# Altium integrated library Renesas Logic.IntLib: 1013 symbols (part 13 of 27)
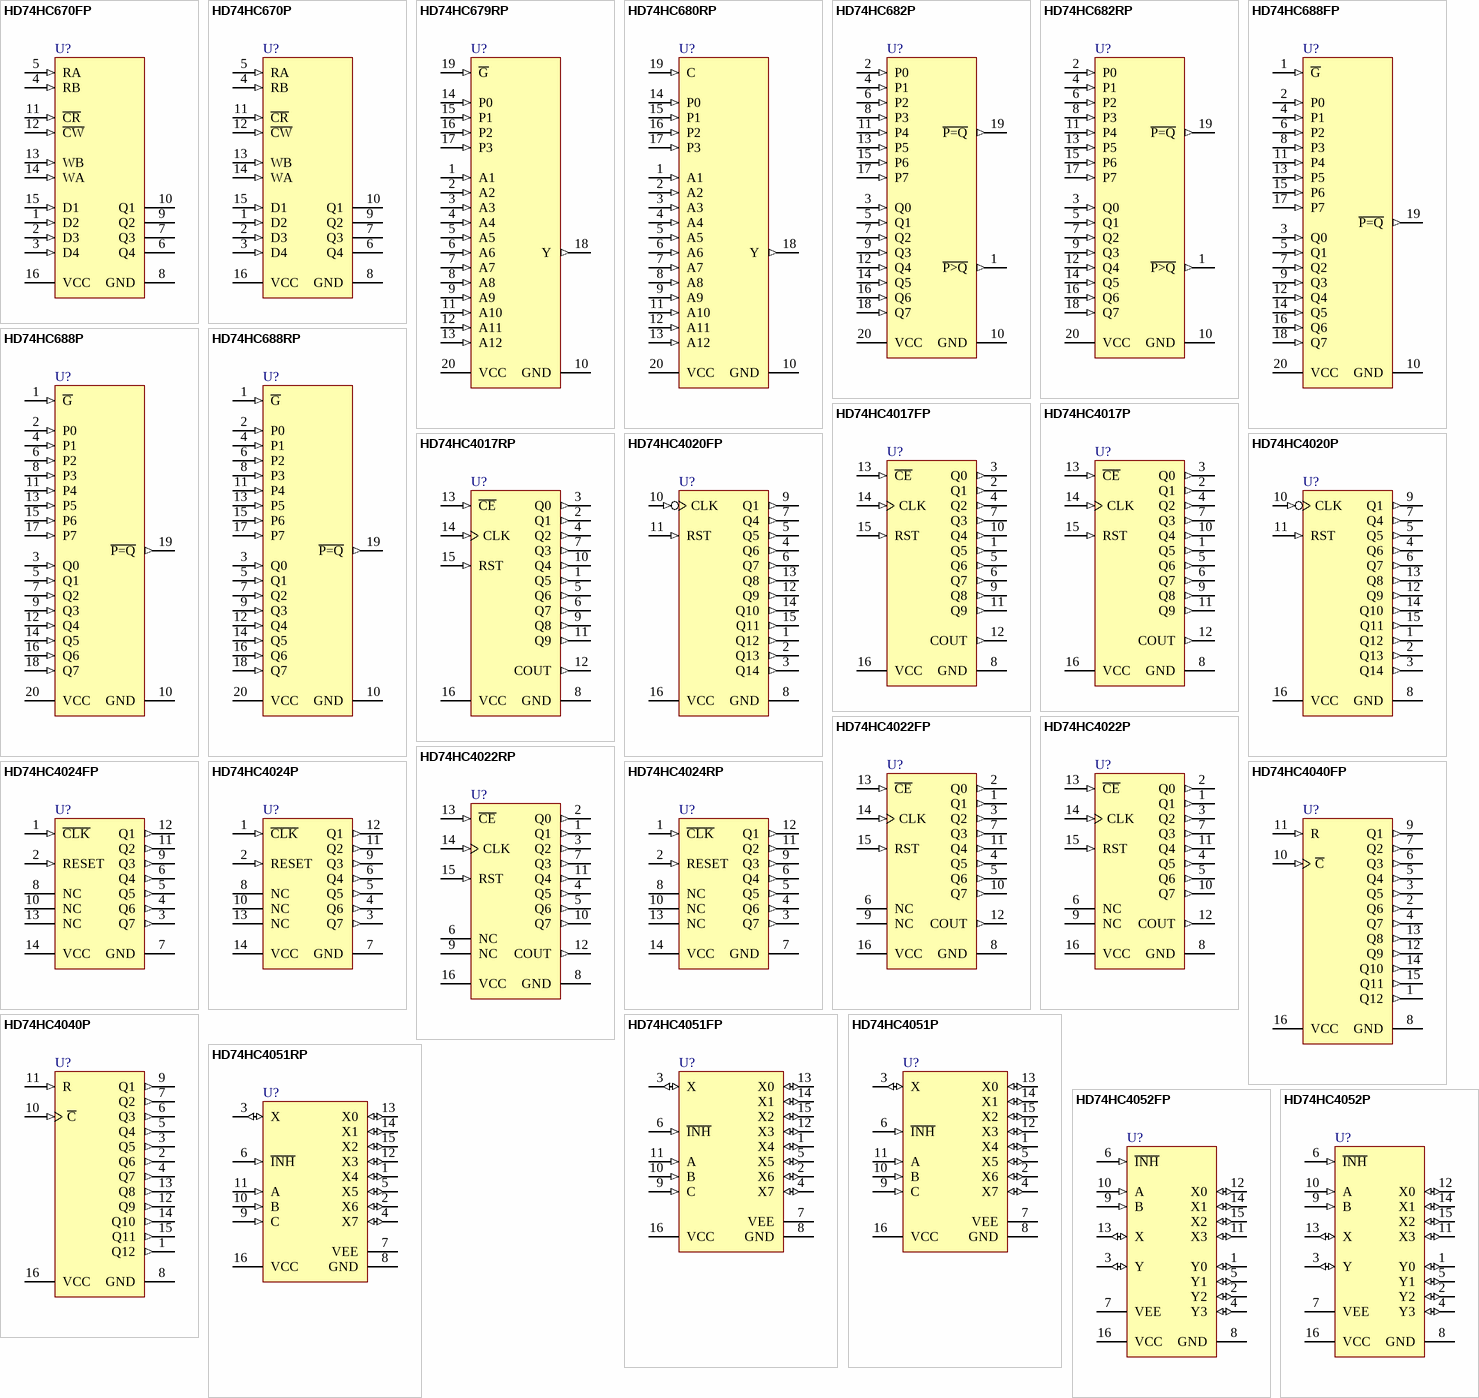
[diagram p65: symbols HD74HC670FP to HD74HC4052P]

## HD74HC679RP
designator U?
12-bit Address Comparator; Published: 10-Feb-2010; DatasheetVersion: Rev.2.00, Mar-2006; PackageVersion: Sep-2005; PackageReference: PRSP0020DC-A; Publisher: Altium Limited; PackageDescription: 20-Pin Plastic Small Outline Integrated Circuit, 12.8 x 7.5 mm Body, 1.27 mm Pitch; Code_JEITA: P-SOP20-7.5x12.8-1.27; Code_IPC: SOIC127P1030-20; ComponentLink1Description: Manufacturer Link; ComponentLink1URL: http://sg.renesas.com/fmwk.jsp?cnt=hd74hc_root.jsp&fp=/products/standard_ic/general_purpose_logic/5v_standard_logic/hd74hc/; ComponentLink2Description: Datasheet; ComponentLink2URL: http://documentation.renesas.com/eng/products/logic/rej03d0640_hd74hc679ds.pdf; ComponentLink3Description: Packaging Specification; ComponentLink3URL: http://sg.renesas.com/media/products/common_info/package/pdf/ic/code/prsp0020dc_a.pdf
footprint PRSP0020DC-A_N (SOIC, 20-Leads, Body 12.8x7.5mm, Pitch 1.27mm, IPC Medium Density)
footprint PRSP0020DC-A_L (SOIC, 20-Leads, Body 12.8x7.5mm, Pitch 1.27mm, IPC High Density)
footprint PRSP0020DC-A_M (SOIC, 20-Leads, Body 12.8x7.5mm, Pitch 1.27mm, IPC Low Density)
pins: 1 A1 (in), 2 A2 (in), 3 A3 (in), 4 A4 (in), 5 A5 (in), 6 A6 (in), 7 A7 (in), 8 A8 (in), 9 A9 (in), 10 GND (power), 11 A10 (in), 12 A11 (in), 13 A12 (in), 14 P0 (in), 15 P1 (in), 16 P2 (in), 17 P3 (in), 18 Y (out), 19 ~{G} (in), 20 VCC (power)

## HD74HC680RP
designator U?
12-bit Address Comparator; Published: 10-Feb-2010; DatasheetVersion: Rev.2.00, Mar-2006; PackageVersion: Sep-2005; PackageReference: PRSP0020DC-A; Publisher: Altium Limited; PackageDescription: 20-Pin Plastic Small Outline Integrated Circuit, 12.8 x 7.5 mm Body, 1.27 mm Pitch; Code_JEITA: P-SOP20-7.5x12.8-1.27; Code_IPC: SOIC127P1030-20; ComponentLink1Description: Manufacturer Link; ComponentLink1URL: http://sg.renesas.com/fmwk.jsp?cnt=hd74hc_root.jsp&fp=/products/standard_ic/general_purpose_logic/5v_standard_logic/hd74hc/; ComponentLink2Description: Datasheet; ComponentLink2URL: http://documentation.renesas.com/eng/products/logic/rej03d0641_hd74hc680ds.pdf; ComponentLink3Description: Packaging Specification; ComponentLink3URL: http://sg.renesas.com/media/products/common_info/package/pdf/ic/code/prsp0020dc_a.pdf
footprint PRSP0020DC-A_N (SOIC, 20-Leads, Body 12.8x7.5mm, Pitch 1.27mm, IPC Medium Density)
footprint PRSP0020DC-A_L (SOIC, 20-Leads, Body 12.8x7.5mm, Pitch 1.27mm, IPC High Density)
footprint PRSP0020DC-A_M (SOIC, 20-Leads, Body 12.8x7.5mm, Pitch 1.27mm, IPC Low Density)
pins: 1 A1 (in), 2 A2 (in), 3 A3 (in), 4 A4 (in), 5 A5 (in), 6 A6 (in), 7 A7 (in), 8 A8 (in), 9 A9 (in), 10 GND (power), 11 A10 (in), 12 A11 (in), 13 A12 (in), 14 P0 (in), 15 P1 (in), 16 P2 (in), 17 P3 (in), 18 Y (out), 19 C (in), 20 VCC (power)

## HD74HC682P
designator U?
8-bit Magnitude Comparator; Published: 10-Feb-2010; DatasheetVersion: Rev.2.00, Mar-2006; PackageVersion: Sep-2005; PackageReference: PRDP0020AC-B; Publisher: Altium Limited; PackageDescription: 20-Pin Plastic DIP, 24.5 x 6.3 mm Body, 7.62 mm Row Spacing, 2.54 mm Pitch; Code_JEITA: P-DIP20-6.3x24.5-2.54; ComponentLink1Description: Manufacturer Link; ComponentLink1URL: http://sg.renesas.com/fmwk.jsp?cnt=hd74hc_root.jsp&fp=/products/standard_ic/general_purpose_logic/5v_standard_logic/hd74hc/; ComponentLink2Description: Datasheet; ComponentLink2URL: http://documentation.renesas.com/eng/products/logic/rej03d0642_hd74hc682_684ds.pdf; ComponentLink3Description: Packaging Specification; ComponentLink3URL: http://sg.renesas.com/media/products/common_info/package/pdf/ic/code/prdp0020ac_b.pdf
footprint PRDP0020AC-B (DIP, 20-Leads, Row Spacing 7.62mm, Pitch 2.54mm, Body 24.5x6.3mm)
pins: 1 ~{P>Q} (out), 2 P0 (in), 3 Q0 (in), 4 P1 (in), 5 Q1 (in), 6 P2 (in), 7 Q2 (in), 8 P3 (in), 9 Q3 (in), 10 GND (power), 11 P4 (in), 12 Q4 (in), 13 P5 (in), 14 Q5 (in), 15 P6 (in), 16 Q6 (in), 17 P7 (in), 18 Q7 (in), 19 ~{P=Q} (out), 20 VCC (power)

## HD74HC682RP
designator U?
8-bit Magnitude Comparator; Published: 10-Feb-2010; DatasheetVersion: Rev.2.00, Mar-2006; PackageVersion: Sep-2005; PackageReference: PRSP0020DC-A; Publisher: Altium Limited; PackageDescription: 20-Pin Plastic Small Outline Integrated Circuit, 12.8 x 7.5 mm Body, 1.27 mm Pitch; Code_JEITA: P-SOP20-7.5x12.8-1.27; Code_IPC: SOIC127P1030-20; ComponentLink1Description: Manufacturer Link; ComponentLink1URL: http://sg.renesas.com/fmwk.jsp?cnt=hd74hc_root.jsp&fp=/products/standard_ic/general_purpose_logic/5v_standard_logic/hd74hc/; ComponentLink2Description: Datasheet; ComponentLink2URL: http://documentation.renesas.com/eng/products/logic/rej03d0642_hd74hc682_684ds.pdf; ComponentLink3Description: Packaging Specification; ComponentLink3URL: http://sg.renesas.com/media/products/common_info/package/pdf/ic/code/prsp0020dc_a.pdf
footprint PRSP0020DC-A_N (SOIC, 20-Leads, Body 12.8x7.5mm, Pitch 1.27mm, IPC Medium Density)
footprint PRSP0020DC-A_L (SOIC, 20-Leads, Body 12.8x7.5mm, Pitch 1.27mm, IPC High Density)
footprint PRSP0020DC-A_M (SOIC, 20-Leads, Body 12.8x7.5mm, Pitch 1.27mm, IPC Low Density)
pins: 1 ~{P>Q} (out), 2 P0 (in), 3 Q0 (in), 4 P1 (in), 5 Q1 (in), 6 P2 (in), 7 Q2 (in), 8 P3 (in), 9 Q3 (in), 10 GND (power), 11 P4 (in), 12 Q4 (in), 13 P5 (in), 14 Q5 (in), 15 P6 (in), 16 Q6 (in), 17 P7 (in), 18 Q7 (in), 19 ~{P=Q} (out), 20 VCC (power)

## HD74HC688FP
designator U?
8-bit Magnitude Comparator; Published: 10-Feb-2010; DatasheetVersion: Rev.2.00, Mar-2006; PackageVersion: Sep-2005; PackageReference: PRSP0020DD-B; Publisher: Altium Limited; PackageDescription: 20-Pin Plastic Small Outline Package, 12.6 x 5.5 x 1.8 mm Body, 1.27 mm Pitch; Code_JEITA: P-SOP20-5.5x12.6-1.27; ComponentLink1Description: Manufacturer Link; ComponentLink1URL: http://sg.renesas.com/fmwk.jsp?cnt=hd74hc_root.jsp&fp=/products/standard_ic/general_purpose_logic/5v_standard_logic/hd74hc/; ComponentLink2Description: Datasheet; ComponentLink2URL: http://documentation.renesas.com/eng/products/logic/rej03d0643_hd74hc688ds.pdf; ComponentLink3Description: Packaging Specification; ComponentLink3URL: http://sg.renesas.com/media/products/common_info/package/pdf/ic/code/prsp0020dd_b.pdf
footprint PRSP0020DD-B_N (SOP, 20-Leads, Body 12.6x5.3mm, Pitch 1.27mm, IPC Medium Density)
footprint PRSP0020DD-B_L (SOP, 20-Leads, Body 12.6x5.3mm, Pitch 1.27mm, IPC High Density)
footprint PRSP0020DD-B_M (SOP, 20-Leads, Body 12.6x5.3mm, Pitch 1.27mm, IPC Low Density)
pins: 1 ~{G} (in), 2 P0 (in), 3 Q0 (in), 4 P1 (in), 5 Q1 (in), 6 P2 (in), 7 Q2 (in), 8 P3 (in), 9 Q3 (in), 10 GND (power), 11 P4 (in), 12 Q4 (in), 13 P5 (in), 14 Q5 (in), 15 P6 (in), 16 Q6 (in), 17 P7 (in), 18 Q7 (in), 19 ~{P=Q} (out), 20 VCC (power)

## HD74HC688P
designator U?
8-bit Magnitude Comparator; Published: 10-Feb-2010; DatasheetVersion: Rev.2.00, Mar-2006; PackageVersion: Sep-2005; PackageReference: PRDP0020AC-B; Publisher: Altium Limited; PackageDescription: 20-Pin Plastic DIP, 24.5 x 6.3 mm Body, 7.62 mm Row Spacing, 2.54 mm Pitch; Code_JEITA: P-DIP20-6.3x24.5-2.54; ComponentLink1Description: Manufacturer Link; ComponentLink1URL: http://sg.renesas.com/fmwk.jsp?cnt=hd74hc_root.jsp&fp=/products/standard_ic/general_purpose_logic/5v_standard_logic/hd74hc/; ComponentLink2Description: Datasheet; ComponentLink2URL: http://documentation.renesas.com/eng/products/logic/rej03d0643_hd74hc688ds.pdf; ComponentLink3Description: Packaging Specification; ComponentLink3URL: http://sg.renesas.com/media/products/common_info/package/pdf/ic/code/prdp0020ac_b.pdf
footprint PRDP0020AC-B (DIP, 20-Leads, Row Spacing 7.62mm, Pitch 2.54mm, Body 24.5x6.3mm)
pins: 1 ~{G} (in), 2 P0 (in), 3 Q0 (in), 4 P1 (in), 5 Q1 (in), 6 P2 (in), 7 Q2 (in), 8 P3 (in), 9 Q3 (in), 10 GND (power), 11 P4 (in), 12 Q4 (in), 13 P5 (in), 14 Q5 (in), 15 P6 (in), 16 Q6 (in), 17 P7 (in), 18 Q7 (in), 19 ~{P=Q} (out), 20 VCC (power)

## HD74HC688RP
designator U?
8-bit Magnitude Comparator; Published: 10-Feb-2010; DatasheetVersion: Rev.2.00, Mar-2006; PackageVersion: Sep-2005; PackageReference: PRSP0020DC-A; Publisher: Altium Limited; PackageDescription: 20-Pin Plastic Small Outline Integrated Circuit, 12.8 x 7.5 mm Body, 1.27 mm Pitch; Code_JEITA: P-SOP20-7.5x12.8-1.27; Code_IPC: SOIC127P1030-20; ComponentLink1Description: Manufacturer Link; ComponentLink1URL: http://sg.renesas.com/fmwk.jsp?cnt=hd74hc_root.jsp&fp=/products/standard_ic/general_purpose_logic/5v_standard_logic/hd74hc/; ComponentLink2Description: Datasheet; ComponentLink2URL: http://documentation.renesas.com/eng/products/logic/rej03d0643_hd74hc688ds.pdf; ComponentLink3Description: Packaging Specification; ComponentLink3URL: http://sg.renesas.com/media/products/common_info/package/pdf/ic/code/prsp0020dc_a.pdf
footprint PRSP0020DC-A_N (SOIC, 20-Leads, Body 12.8x7.5mm, Pitch 1.27mm, IPC Medium Density)
footprint PRSP0020DC-A_L (SOIC, 20-Leads, Body 12.8x7.5mm, Pitch 1.27mm, IPC High Density)
footprint PRSP0020DC-A_M (SOIC, 20-Leads, Body 12.8x7.5mm, Pitch 1.27mm, IPC Low Density)
pins: 1 ~{G} (in), 2 P0 (in), 3 Q0 (in), 4 P1 (in), 5 Q1 (in), 6 P2 (in), 7 Q2 (in), 8 P3 (in), 9 Q3 (in), 10 GND (power), 11 P4 (in), 12 Q4 (in), 13 P5 (in), 14 Q5 (in), 15 P6 (in), 16 Q6 (in), 17 P7 (in), 18 Q7 (in), 19 ~{P=Q} (out), 20 VCC (power)

## HD74HC4017FP
designator U?
Decade Counter / Divider; Published: 10-Feb-2010; DatasheetVersion: Rev.2.00, Mar-2006; PackageVersion: Sep-2005; PackageReference: PRSP0016DH-B; Publisher: Altium Limited; PackageDescription: 16-Pin Plastic Small Outline Package 1.27 mm Pitch; Code_JEITA: P-SOP16-5.5x10.06-1.27; ComponentLink1Description: Manufacturer Link; ComponentLink1URL: http://sg.renesas.com/fmwk.jsp?cnt=hd74hc_root.jsp&fp=/products/standard_ic/general_purpose_logic/5v_standard_logic/hd74hc/; ComponentLink2Description: Datasheet; ComponentLink2URL: http://documentation.renesas.com/eng/products/logic/rej03d0644_hd74hc4017ds.pdf; ComponentLink3Description: Packaging Specification; ComponentLink3URL: http://sg.renesas.com/media/products/common_info/package/pdf/ic/code/prsp0016dh_b.pdf
footprint PRSP0016DH-B_N (SOP, 16-Leads, Body 10.06x5.5mm, Pitch 1.27mm, IPC Medium Density)
footprint PRSP0016DH-B_L (SOP, 16-Leads, Body 10.06x5.5mm, Pitch 1.27mm, IPC High Density)
footprint PRSP0016DH-B_M (SOP, 16-Leads, Body 10.06x5.5mm, Pitch 1.27mm, IPC Low Density)
pins: 1 Q5 (out), 2 Q1 (out), 3 Q0 (out), 4 Q2 (out), 5 Q6 (out), 6 Q7 (out), 7 Q3 (out), 8 GND (power), 9 Q8 (out), 10 Q4 (out), 11 Q9 (out), 12 COUT (out), 13 ~{CE} (in), 14 CLK (in), 15 RST (in), 16 VCC (power)

## HD74HC4017P
designator U?
Decade Counter / Divider; Published: 10-Feb-2010; DatasheetVersion: Rev.2.00, Mar-2006; PackageVersion: Sep-2005; PackageReference: PRDP0016AE-B; Publisher: Altium Limited; PackageDescription: DIP, Plastic, 16-Pin, Row Spacing 7.62 mm, Pitch 2.54 mm; Code_JEITA: P-DIP16-6.3x19.2-2.54; ComponentLink1Description: Manufacturer Link; ComponentLink1URL: http://sg.renesas.com/fmwk.jsp?cnt=hd74hc_root.jsp&fp=/products/standard_ic/general_purpose_logic/5v_standard_logic/hd74hc/; ComponentLink2Description: Datasheet; ComponentLink2URL: http://documentation.renesas.com/eng/products/logic/rej03d0644_hd74hc4017ds.pdf; ComponentLink3Description: Packaging Specification; ComponentLink3URL: http://sg.renesas.com/media/products/common_info/package/pdf/ic/code/prdp0016ae_b.pdf
footprint PRDP0016AE-B (DIP, 16-Leads, Row Spacing 7.62mm, Pitch 2.54mm, Body 19.2x6.3mm)
pins: 1 Q5 (out), 2 Q1 (out), 3 Q0 (out), 4 Q2 (out), 5 Q6 (out), 6 Q7 (out), 7 Q3 (out), 8 GND (power), 9 Q8 (out), 10 Q4 (out), 11 Q9 (out), 12 COUT (out), 13 ~{CE} (in), 14 CLK (in), 15 RST (in), 16 VCC (power)

## HD74HC4017RP
designator U?
Decade Counter / Divider; Published: 10-Feb-2010; DatasheetVersion: Rev.2.00, Mar-2006; PackageVersion: Sep-2005; PackageReference: PRSP0016DG-A; Publisher: Altium Limited; PackageDescription: 16-Pin Plastic Small Outline Integrated Circuit, 9.9 x 3.95 mm Body, 1.27 mm Pitch; Code_JEITA: P-SOP16-3.95x9.9-1.27; Code_IPC: SOIC127P600-16; ComponentLink1Description: Manufacturer Link; ComponentLink1URL: http://sg.renesas.com/fmwk.jsp?cnt=hd74hc_root.jsp&fp=/products/standard_ic/general_purpose_logic/5v_standard_logic/hd74hc/; ComponentLink2Description: Datasheet; ComponentLink2URL: http://documentation.renesas.com/eng/products/logic/rej03d0644_hd74hc4017ds.pdf; ComponentLink3Description: Packaging Specification; ComponentLink3URL: http://sg.renesas.com/media/products/common_info/package/pdf/ic/code/prsp0016dg_a.pdf
footprint PRSP0016DG-A_N (SOIC, 16-Leads, Body 9.9x3.95mm, Pitch 1.27mm, IPC Medium Density)
footprint PRSP0016DG-A_L (SOIC, 16-Leads, Body 9.9x3.95mm, Pitch 1.27mm, IPC High Density)
footprint PRSP0016DG-A_M (SOIC, 16-Leads, Body 9.9x3.95mm, Pitch 1.27mm, IPC Low Density)
pins: 1 Q5 (out), 2 Q1 (out), 3 Q0 (out), 4 Q2 (out), 5 Q6 (out), 6 Q7 (out), 7 Q3 (out), 8 GND (power), 9 Q8 (out), 10 Q4 (out), 11 Q9 (out), 12 COUT (out), 13 ~{CE} (in), 14 CLK (in), 15 RST (in), 16 VCC (power)

## HD74HC4020FP
designator U?
14-stage Binary Counter; Published: 10-Feb-2010; DatasheetVersion: Rev.2.00, Mar-2006; PackageVersion: Sep-2005; PackageReference: PRSP0016DH-B; Publisher: Altium Limited; PackageDescription: 16-Pin Plastic Small Outline Package 1.27 mm Pitch; Code_JEITA: P-SOP16-5.5x10.06-1.27; ComponentLink1Description: Manufacturer Link; ComponentLink1URL: http://sg.renesas.com/fmwk.jsp?cnt=hd74hc_root.jsp&fp=/products/standard_ic/general_purpose_logic/5v_standard_logic/hd74hc/; ComponentLink2Description: Datasheet; ComponentLink2URL: http://documentation.renesas.com/eng/products/logic/rej03d0645_hd74hc4020ds.pdf; ComponentLink3Description: Packaging Specification; ComponentLink3URL: http://sg.renesas.com/media/products/common_info/package/pdf/ic/code/prsp0016dh_b.pdf
footprint PRSP0016DH-B_N (SOP, 16-Leads, Body 10.06x5.5mm, Pitch 1.27mm, IPC Medium Density)
footprint PRSP0016DH-B_L (SOP, 16-Leads, Body 10.06x5.5mm, Pitch 1.27mm, IPC High Density)
footprint PRSP0016DH-B_M (SOP, 16-Leads, Body 10.06x5.5mm, Pitch 1.27mm, IPC Low Density)
pins: 1 Q12 (out), 2 Q13 (out), 3 Q14 (out), 4 Q6 (out), 5 Q5 (out), 6 Q7 (out), 7 Q4 (out), 8 GND (power), 9 Q1 (out), 10 CLK (in), 11 RST (in), 12 Q9 (out), 13 Q8 (out), 14 Q10 (out), 15 Q11 (out), 16 VCC (power)

## HD74HC4020P
designator U?
14-stage Binary Counter; Published: 10-Feb-2010; DatasheetVersion: Rev.2.00, Mar-2006; PackageVersion: Sep-2005; PackageReference: PRDP0016AE-B; Publisher: Altium Limited; PackageDescription: DIP, Plastic, 16-Pin, Row Spacing 7.62 mm, Pitch 2.54 mm; Code_JEITA: P-DIP16-6.3x19.2-2.54; ComponentLink1Description: Manufacturer Link; ComponentLink1URL: http://sg.renesas.com/fmwk.jsp?cnt=hd74hc_root.jsp&fp=/products/standard_ic/general_purpose_logic/5v_standard_logic/hd74hc/; ComponentLink2Description: Datasheet; ComponentLink2URL: http://documentation.renesas.com/eng/products/logic/rej03d0645_hd74hc4020ds.pdf; ComponentLink3Description: Packaging Specification; ComponentLink3URL: http://sg.renesas.com/media/products/common_info/package/pdf/ic/code/prdp0016ae_b.pdf
footprint PRDP0016AE-B (DIP, 16-Leads, Row Spacing 7.62mm, Pitch 2.54mm, Body 19.2x6.3mm)
pins: 1 Q12 (out), 2 Q13 (out), 3 Q14 (out), 4 Q6 (out), 5 Q5 (out), 6 Q7 (out), 7 Q4 (out), 8 GND (power), 9 Q1 (out), 10 CLK (in), 11 RST (in), 12 Q9 (out), 13 Q8 (out), 14 Q10 (out), 15 Q11 (out), 16 VCC (power)

## HD74HC4022FP
designator U?
Octal Counters / Dividers; Published: 10-Feb-2010; DatasheetVersion: Rev.2.00, Mar-2006; PackageVersion: Sep-2005; PackageReference: PRSP0016DH-B; Publisher: Altium Limited; PackageDescription: 16-Pin Plastic Small Outline Package 1.27 mm Pitch; Code_JEITA: P-SOP16-5.5x10.06-1.27; ComponentLink1Description: Manufacturer Link; ComponentLink1URL: http://sg.renesas.com/fmwk.jsp?cnt=hd74hc_root.jsp&fp=/products/standard_ic/general_purpose_logic/5v_standard_logic/hd74hc/; ComponentLink2Description: Datasheet; ComponentLink2URL: http://documentation.renesas.com/eng/products/logic/rej03d0646_hd74hc4022ds.pdf; ComponentLink3Description: Packaging Specification; ComponentLink3URL: http://sg.renesas.com/media/products/common_info/package/pdf/ic/code/prsp0016dh_b.pdf
footprint PRSP0016DH-B_N (SOP, 16-Leads, Body 10.06x5.5mm, Pitch 1.27mm, IPC Medium Density)
footprint PRSP0016DH-B_L (SOP, 16-Leads, Body 10.06x5.5mm, Pitch 1.27mm, IPC High Density)
footprint PRSP0016DH-B_M (SOP, 16-Leads, Body 10.06x5.5mm, Pitch 1.27mm, IPC Low Density)
pins: 1 Q1 (out), 2 Q0 (out), 3 Q2 (out), 4 Q5 (out), 5 Q6 (out), 6 NC, 7 Q3 (out), 8 GND (power), 9 NC, 10 Q7 (out), 11 Q4 (out), 12 COUT (out), 13 ~{CE} (in), 14 CLK (in), 15 RST (in), 16 VCC (power)

## HD74HC4022P
designator U?
Octal Counters / Dividers; Published: 10-Feb-2010; DatasheetVersion: Rev.2.00, Mar-2006; PackageVersion: Sep-2005; PackageReference: PRDP0016AE-B; Publisher: Altium Limited; PackageDescription: DIP, Plastic, 16-Pin, Row Spacing 7.62 mm, Pitch 2.54 mm; Code_JEITA: P-DIP16-6.3x19.2-2.54; ComponentLink1Description: Manufacturer Link; ComponentLink1URL: http://sg.renesas.com/fmwk.jsp?cnt=hd74hc_root.jsp&fp=/products/standard_ic/general_purpose_logic/5v_standard_logic/hd74hc/; ComponentLink2Description: Datasheet; ComponentLink2URL: http://documentation.renesas.com/eng/products/logic/rej03d0646_hd74hc4022ds.pdf; ComponentLink3Description: Packaging Specification; ComponentLink3URL: http://sg.renesas.com/media/products/common_info/package/pdf/ic/code/prdp0016ae_b.pdf
footprint PRDP0016AE-B (DIP, 16-Leads, Row Spacing 7.62mm, Pitch 2.54mm, Body 19.2x6.3mm)
pins: 1 Q1 (out), 2 Q0 (out), 3 Q2 (out), 4 Q5 (out), 5 Q6 (out), 6 NC, 7 Q3 (out), 8 GND (power), 9 NC, 10 Q7 (out), 11 Q4 (out), 12 COUT (out), 13 ~{CE} (in), 14 CLK (in), 15 RST (in), 16 VCC (power)

## HD74HC4022RP
designator U?
Octal Counters / Dividers; Published: 10-Feb-2010; DatasheetVersion: Rev.2.00, Mar-2006; PackageVersion: Sep-2005; PackageReference: PRSP0016DG-A; Publisher: Altium Limited; PackageDescription: 16-Pin Plastic Small Outline Integrated Circuit, 9.9 x 3.95 mm Body, 1.27 mm Pitch; Code_JEITA: P-SOP16-3.95x9.9-1.27; Code_IPC: SOIC127P600-16; ComponentLink1Description: Manufacturer Link; ComponentLink1URL: http://sg.renesas.com/fmwk.jsp?cnt=hd74hc_root.jsp&fp=/products/standard_ic/general_purpose_logic/5v_standard_logic/hd74hc/; ComponentLink2Description: Datasheet; ComponentLink2URL: http://documentation.renesas.com/eng/products/logic/rej03d0646_hd74hc4022ds.pdf; ComponentLink3Description: Packaging Specification; ComponentLink3URL: http://sg.renesas.com/media/products/common_info/package/pdf/ic/code/prsp0016dg_a.pdf
footprint PRSP0016DG-A_N (SOIC, 16-Leads, Body 9.9x3.95mm, Pitch 1.27mm, IPC Medium Density)
footprint PRSP0016DG-A_L (SOIC, 16-Leads, Body 9.9x3.95mm, Pitch 1.27mm, IPC High Density)
footprint PRSP0016DG-A_M (SOIC, 16-Leads, Body 9.9x3.95mm, Pitch 1.27mm, IPC Low Density)
pins: 1 Q1 (out), 2 Q0 (out), 3 Q2 (out), 4 Q5 (out), 5 Q6 (out), 6 NC, 7 Q3 (out), 8 GND (power), 9 NC, 10 Q7 (out), 11 Q4 (out), 12 COUT (out), 13 ~{CE} (in), 14 CLK (in), 15 RST (in), 16 VCC (power)

## HD74HC4024FP
designator U?
7-stage Binary Counter; Published: 10-Feb-2010; DatasheetVersion: Rev.3.00, Mar-2006; PackageVersion: Sep-2005; PackageReference: PRSP0014DF-B; Publisher: Altium Limited; PackageDescription: 14-Pin Plastic Small Outline Package, 10.06 x 5.5 mm Body, 1.27 mm Pitch; Code_JEITA: P-SOP14-5.5x10.06-1.27; ComponentLink1Description: Manufacturer Link; ComponentLink1URL: http://sg.renesas.com/fmwk.jsp?cnt=hd74hc_root.jsp&fp=/products/standard_ic/general_purpose_logic/5v_standard_logic/hd74hc/; ComponentLink2Description: Datasheet; ComponentLink2URL: http://documentation.renesas.com/eng/products/logic/rej03d0325_hd74hc4024.pdf; ComponentLink3Description: Packaging Specification; ComponentLink3URL: http://sg.renesas.com/media/products/common_info/package/pdf/ic/code/prsp0014df_b.pdf
footprint PRSP0014DF-B_N (SOP, 14-Leads, Body 10.06x5.5mm, Pitch 1.27mm, IPC Medium Density)
footprint PRSP0014DF-B_L (SOP, 14-Leads, Body 10.06x5.5mm, Pitch 1.27mm, IPC High Density)
footprint PRSP0014DF-B_M (SOP, 14-Leads, Body 10.06x5.5mm, Pitch 1.27mm, IPC Low Density)
pins: 1 ~{CLK} (in), 2 RESET (in), 3 Q7 (out), 4 Q6 (out), 5 Q5 (out), 6 Q4 (out), 7 GND (power), 8 NC, 9 Q3 (out), 10 NC, 11 Q2 (out), 12 Q1 (out), 13 NC, 14 VCC (power)

## HD74HC4024P
designator U?
7-stage Binary Counter; Published: 10-Feb-2010; DatasheetVersion: Rev.3.00, Mar-2006; PackageVersion: Sep-2005; PackageReference: PRDP0014AB-B; Publisher: Altium Limited; PackageDescription: 14-Pin Plastic DIP, 19.2 x 6.3 mm Body, 7.62 mm Row Spacing, Pitch 2.54 mm; Code_JEITA: P-DIP14-6.3x19.2-2.54; ComponentLink1Description: Manufacturer Link; ComponentLink1URL: http://sg.renesas.com/fmwk.jsp?cnt=hd74hc_root.jsp&fp=/products/standard_ic/general_purpose_logic/5v_standard_logic/hd74hc/; ComponentLink2Description: Datasheet; ComponentLink2URL: http://documentation.renesas.com/eng/products/logic/rej03d0325_hd74hc4024.pdf; ComponentLink3Description: Packaging Specification; ComponentLink3URL: http://sg.renesas.com/media/products/common_info/package/pdf/ic/code/prdp0014ab_b.pdf
footprint PRDP0014AB-B (DIP, 14-Leads, Row Spacing 7.62mm, Pitch 2.54mm, Body 19.2x6.3mm)
pins: 1 ~{CLK} (in), 2 RESET (in), 3 Q7 (out), 4 Q6 (out), 5 Q5 (out), 6 Q4 (out), 7 GND (power), 8 NC, 9 Q3 (out), 10 NC, 11 Q2 (out), 12 Q1 (out), 13 NC, 14 VCC (power)

## HD74HC4024RP
designator U?
7-stage Binary Counter; Published: 10-Feb-2010; DatasheetVersion: Rev.3.00, Mar-2006; PackageVersion: Sep-2005; PackageReference: PRSP0014DE-A; Publisher: Altium Limited; PackageDescription: 14-Pin Plastic Small Outline Integrated Circuit 8.65 x 3.95 mm Body, 1.27 mm Pitch; Code_JEITA: P-SOP14-3.95x8.65-1.27; ComponentLink1Description: Manufacturer Link; ComponentLink1URL: http://sg.renesas.com/fmwk.jsp?cnt=hd74hc_root.jsp&fp=/products/standard_ic/general_purpose_logic/5v_standard_logic/hd74hc/; ComponentLink2Description: Datasheet; ComponentLink2URL: http://documentation.renesas.com/eng/products/logic/rej03d0325_hd74hc4024.pdf; ComponentLink3Description: Packaging Specification; ComponentLink3URL: http://sg.renesas.com/media/products/common_info/package/pdf/ic/code/prsp0014de_a.pdf
footprint PRSP0014DE-A_N (SOIC, 14-Leads, Body 8.65x3.95mm, Pitch 1.27mm, IPC Medium Density)
footprint PRSP0014DE-A_L (SOIC, 14-Leads, Body 8.65x3.95mm, Pitch 1.27mm, IPC High Density)
footprint PRSP0014DE-A_M (SOIC, 14-Leads, Body 8.65x3.95mm, Pitch 1.27mm, IPC Low Density)
pins: 1 ~{CLK} (in), 2 RESET (in), 3 Q7 (out), 4 Q6 (out), 5 Q5 (out), 6 Q4 (out), 7 GND (power), 8 NC, 9 Q3 (out), 10 NC, 11 Q2 (out), 12 Q1 (out), 13 NC, 14 VCC (power)

## HD74HC4040FP
designator U?
12-stage Binary Counter; Published: 10-Feb-2010; DatasheetVersion: Rev.2.00, Mar-2006; PackageVersion: Sep-2005; PackageReference: PRSP0016DH-B; Publisher: Altium Limited; PackageDescription: 16-Pin Plastic Small Outline Package 1.27 mm Pitch; Code_JEITA: P-SOP16-5.5x10.06-1.27; ComponentLink1Description: Manufacturer Link; ComponentLink1URL: http://sg.renesas.com/fmwk.jsp?cnt=hd74hc_root.jsp&fp=/products/standard_ic/general_purpose_logic/5v_standard_logic/hd74hc/; ComponentLink2Description: Datasheet; ComponentLink2URL: http://documentation.renesas.com/eng/products/logic/rej03d0647_hd74hc4040ds.pdf; ComponentLink3Description: Packaging Specification; ComponentLink3URL: http://sg.renesas.com/media/products/common_info/package/pdf/ic/code/prsp0016dh_b.pdf
footprint PRSP0016DH-B_N (SOP, 16-Leads, Body 10.06x5.5mm, Pitch 1.27mm, IPC Medium Density)
footprint PRSP0016DH-B_L (SOP, 16-Leads, Body 10.06x5.5mm, Pitch 1.27mm, IPC High Density)
footprint PRSP0016DH-B_M (SOP, 16-Leads, Body 10.06x5.5mm, Pitch 1.27mm, IPC Low Density)
pins: 1 Q12 (out), 2 Q6 (out), 3 Q5 (out), 4 Q7 (out), 5 Q4 (out), 6 Q3 (out), 7 Q2 (out), 8 GND (power), 9 Q1 (out), 10 ~{C} (in), 11 R (in), 12 Q9 (out), 13 Q8 (out), 14 Q10 (out), 15 Q11 (out), 16 VCC (power)

## HD74HC4040P
designator U?
12-stage Binary Counter; Published: 10-Feb-2010; DatasheetVersion: Rev.2.00, Mar-2006; PackageVersion: Sep-2005; PackageReference: PRDP0016AE-B; Publisher: Altium Limited; PackageDescription: DIP, Plastic, 16-Pin, Row Spacing 7.62 mm, Pitch 2.54 mm; Code_JEITA: P-DIP16-6.3x19.2-2.54; ComponentLink1Description: Manufacturer Link; ComponentLink1URL: http://sg.renesas.com/fmwk.jsp?cnt=hd74hc_root.jsp&fp=/products/standard_ic/general_purpose_logic/5v_standard_logic/hd74hc/; ComponentLink2Description: Datasheet; ComponentLink2URL: http://documentation.renesas.com/eng/products/logic/rej03d0647_hd74hc4040ds.pdf; ComponentLink3Description: Packaging Specification; ComponentLink3URL: http://sg.renesas.com/media/products/common_info/package/pdf/ic/code/prdp0016ae_b.pdf
footprint PRDP0016AE-B (DIP, 16-Leads, Row Spacing 7.62mm, Pitch 2.54mm, Body 19.2x6.3mm)
pins: 1 Q12 (out), 2 Q6 (out), 3 Q5 (out), 4 Q7 (out), 5 Q4 (out), 6 Q3 (out), 7 Q2 (out), 8 GND (power), 9 Q1 (out), 10 ~{C} (in), 11 R (in), 12 Q9 (out), 13 Q8 (out), 14 Q10 (out), 15 Q11 (out), 16 VCC (power)

## HD74HC4051FP
designator U?
8-Channel Analog Multiplexer / Demultiplexer; Published: 10-Feb-2010; DatasheetVersion: Rev.2.00, Mar-2006; PackageVersion: Sep-2005; PackageReference: PRSP0016DH-B; Publisher: Altium Limited; PackageDescription: 16-Pin Plastic Small Outline Package 1.27 mm Pitch; Code_JEITA: P-SOP16-5.5x10.06-1.27; ComponentLink1Description: Manufacturer Link; ComponentLink1URL: http://sg.renesas.com/fmwk.jsp?cnt=hd74hc_root.jsp&fp=/products/standard_ic/general_purpose_logic/5v_standard_logic/hd74hc/; ComponentLink2Description: Datasheet; ComponentLink2URL: http://documentation.renesas.com/eng/products/logic/rej03d0648_hd74hc4051ds.pdf; ComponentLink3Description: Packaging Specification; ComponentLink3URL: http://sg.renesas.com/media/products/common_info/package/pdf/ic/code/prsp0016dh_b.pdf
footprint PRSP0016DH-B_N (SOP, 16-Leads, Body 10.06x5.5mm, Pitch 1.27mm, IPC Medium Density)
footprint PRSP0016DH-B_L (SOP, 16-Leads, Body 10.06x5.5mm, Pitch 1.27mm, IPC High Density)
footprint PRSP0016DH-B_M (SOP, 16-Leads, Body 10.06x5.5mm, Pitch 1.27mm, IPC Low Density)
pins: 1 X4 (io), 2 X6 (io), 3 X (io), 4 X7 (io), 5 X5 (io), 6 ~{INH} (in), 7 VEE (power), 8 GND (power), 9 C (in), 10 B (in), 11 A (in), 12 X3 (io), 13 X0 (io), 14 X1 (io), 15 X2 (io), 16 VCC (power)

## HD74HC4051P
designator U?
8-Channel Analog Multiplexer / Demultiplexer; Published: 10-Feb-2010; DatasheetVersion: Rev.2.00, Mar-2006; PackageVersion: Sep-2005; PackageReference: PRDP0016AE-B; Publisher: Altium Limited; PackageDescription: DIP, Plastic, 16-Pin, Row Spacing 7.62 mm, Pitch 2.54 mm; Code_JEITA: P-DIP16-6.3x19.2-2.54; ComponentLink1Description: Manufacturer Link; ComponentLink1URL: http://sg.renesas.com/fmwk.jsp?cnt=hd74hc_root.jsp&fp=/products/standard_ic/general_purpose_logic/5v_standard_logic/hd74hc/; ComponentLink2Description: Datasheet; ComponentLink2URL: http://documentation.renesas.com/eng/products/logic/rej03d0648_hd74hc4051ds.pdf; ComponentLink3Description: Packaging Specification; ComponentLink3URL: http://sg.renesas.com/media/products/common_info/package/pdf/ic/code/prdp0016ae_b.pdf
footprint PRDP0016AE-B (DIP, 16-Leads, Row Spacing 7.62mm, Pitch 2.54mm, Body 19.2x6.3mm)
pins: 1 X4 (io), 2 X6 (io), 3 X (io), 4 X7 (io), 5 X5 (io), 6 ~{INH} (in), 7 VEE (power), 8 GND (power), 9 C (in), 10 B (in), 11 A (in), 12 X3 (io), 13 X0 (io), 14 X1 (io), 15 X2 (io), 16 VCC (power)

## HD74HC4051RP
designator U?
8-Channel Analog Multiplexer / Demultiplexer; Published: 10-Feb-2010; DatasheetVersion: Rev.2.00, Mar-2006; PackageVersion: Sep-2005; PackageReference: PRSP0016DG-A; Publisher: Altium Limited; PackageDescription: 16-Pin Plastic Small Outline Integrated Circuit, 9.9 x 3.95 mm Body, 1.27 mm Pitch; Code_JEITA: P-SOP16-3.95x9.9-1.27; Code_IPC: SOIC127P600-16; ComponentLink1Description: Manufacturer Link; ComponentLink1URL: http://sg.renesas.com/fmwk.jsp?cnt=hd74hc_root.jsp&fp=/products/standard_ic/general_purpose_logic/5v_standard_logic/hd74hc/; ComponentLink2Description: Datasheet; ComponentLink2URL: http://documentation.renesas.com/eng/products/logic/rej03d0648_hd74hc4051ds.pdf; ComponentLink3Description: Packaging Specification; ComponentLink3URL: http://sg.renesas.com/media/products/common_info/package/pdf/ic/code/prsp0016dg_a.pdf
footprint PRSP0016DG-A_N (SOIC, 16-Leads, Body 9.9x3.95mm, Pitch 1.27mm, IPC Medium Density)
footprint PRSP0016DG-A_L (SOIC, 16-Leads, Body 9.9x3.95mm, Pitch 1.27mm, IPC High Density)
footprint PRSP0016DG-A_M (SOIC, 16-Leads, Body 9.9x3.95mm, Pitch 1.27mm, IPC Low Density)
pins: 1 X4 (io), 2 X6 (io), 3 X (io), 4 X7 (io), 5 X5 (io), 6 ~{INH} (in), 7 VEE (power), 8 GND (power), 9 C (in), 10 B (in), 11 A (in), 12 X3 (io), 13 X0 (io), 14 X1 (io), 15 X2 (io), 16 VCC (power)

## HD74HC4052FP
designator U?
Dual 4-Channel Analog Multiplexers / Demultiplexers; Published: 10-Feb-2010; DatasheetVersion: Rev.2.00, Mar-2006; PackageVersion: Sep-2005; PackageReference: PRSP0016DH-B; Publisher: Altium Limited; PackageDescription: 16-Pin Plastic Small Outline Package 1.27 mm Pitch; Code_JEITA: P-SOP16-5.5x10.06-1.27; ComponentLink1Description: Manufacturer Link; ComponentLink1URL: http://sg.renesas.com/fmwk.jsp?cnt=hd74hc_root.jsp&fp=/products/standard_ic/general_purpose_logic/5v_standard_logic/hd74hc/; ComponentLink2Description: Datasheet; ComponentLink2URL: http://documentation.renesas.com/eng/products/logic/rej03d0649_hd74hc4052_4053ds.pdf; ComponentLink3Description: Packaging Specification; ComponentLink3URL: http://sg.renesas.com/media/products/common_info/package/pdf/ic/code/prsp0016dh_b.pdf
footprint PRSP0016DH-B_N (SOP, 16-Leads, Body 10.06x5.5mm, Pitch 1.27mm, IPC Medium Density)
footprint PRSP0016DH-B_L (SOP, 16-Leads, Body 10.06x5.5mm, Pitch 1.27mm, IPC High Density)
footprint PRSP0016DH-B_M (SOP, 16-Leads, Body 10.06x5.5mm, Pitch 1.27mm, IPC Low Density)
pins: 1 Y0 (io), 2 Y2 (io), 3 Y (io), 4 Y3 (io), 5 Y1 (io), 6 ~{INH} (in), 7 VEE (power), 8 GND (power), 9 B (in), 10 A (in), 11 X3 (io), 12 X0 (io), 13 X (io), 14 X1 (io), 15 X2 (io), 16 VCC (power)

## HD74HC4052P
designator U?
Dual 4-Channel Analog Multiplexers / Demultiplexers; Published: 10-Feb-2010; DatasheetVersion: Rev.2.00, Mar-2006; PackageVersion: Sep-2005; PackageReference: PRDP0016AE-B; Publisher: Altium Limited; PackageDescription: DIP, Plastic, 16-Pin, Row Spacing 7.62 mm, Pitch 2.54 mm; Code_JEITA: P-DIP16-6.3x19.2-2.54; ComponentLink1Description: Manufacturer Link; ComponentLink1URL: http://sg.renesas.com/fmwk.jsp?cnt=hd74hc_root.jsp&fp=/products/standard_ic/general_purpose_logic/5v_standard_logic/hd74hc/; ComponentLink2Description: Datasheet; ComponentLink2URL: http://documentation.renesas.com/eng/products/logic/rej03d0649_hd74hc4052_4053ds.pdf; ComponentLink3Description: Packaging Specification; ComponentLink3URL: http://sg.renesas.com/media/products/common_info/package/pdf/ic/code/prdp0016ae_b.pdf
footprint PRDP0016AE-B (DIP, 16-Leads, Row Spacing 7.62mm, Pitch 2.54mm, Body 19.2x6.3mm)
pins: 1 Y0 (io), 2 Y2 (io), 3 Y (io), 4 Y3 (io), 5 Y1 (io), 6 ~{INH} (in), 7 VEE (power), 8 GND (power), 9 B (in), 10 A (in), 11 X3 (io), 12 X0 (io), 13 X (io), 14 X1 (io), 15 X2 (io), 16 VCC (power)

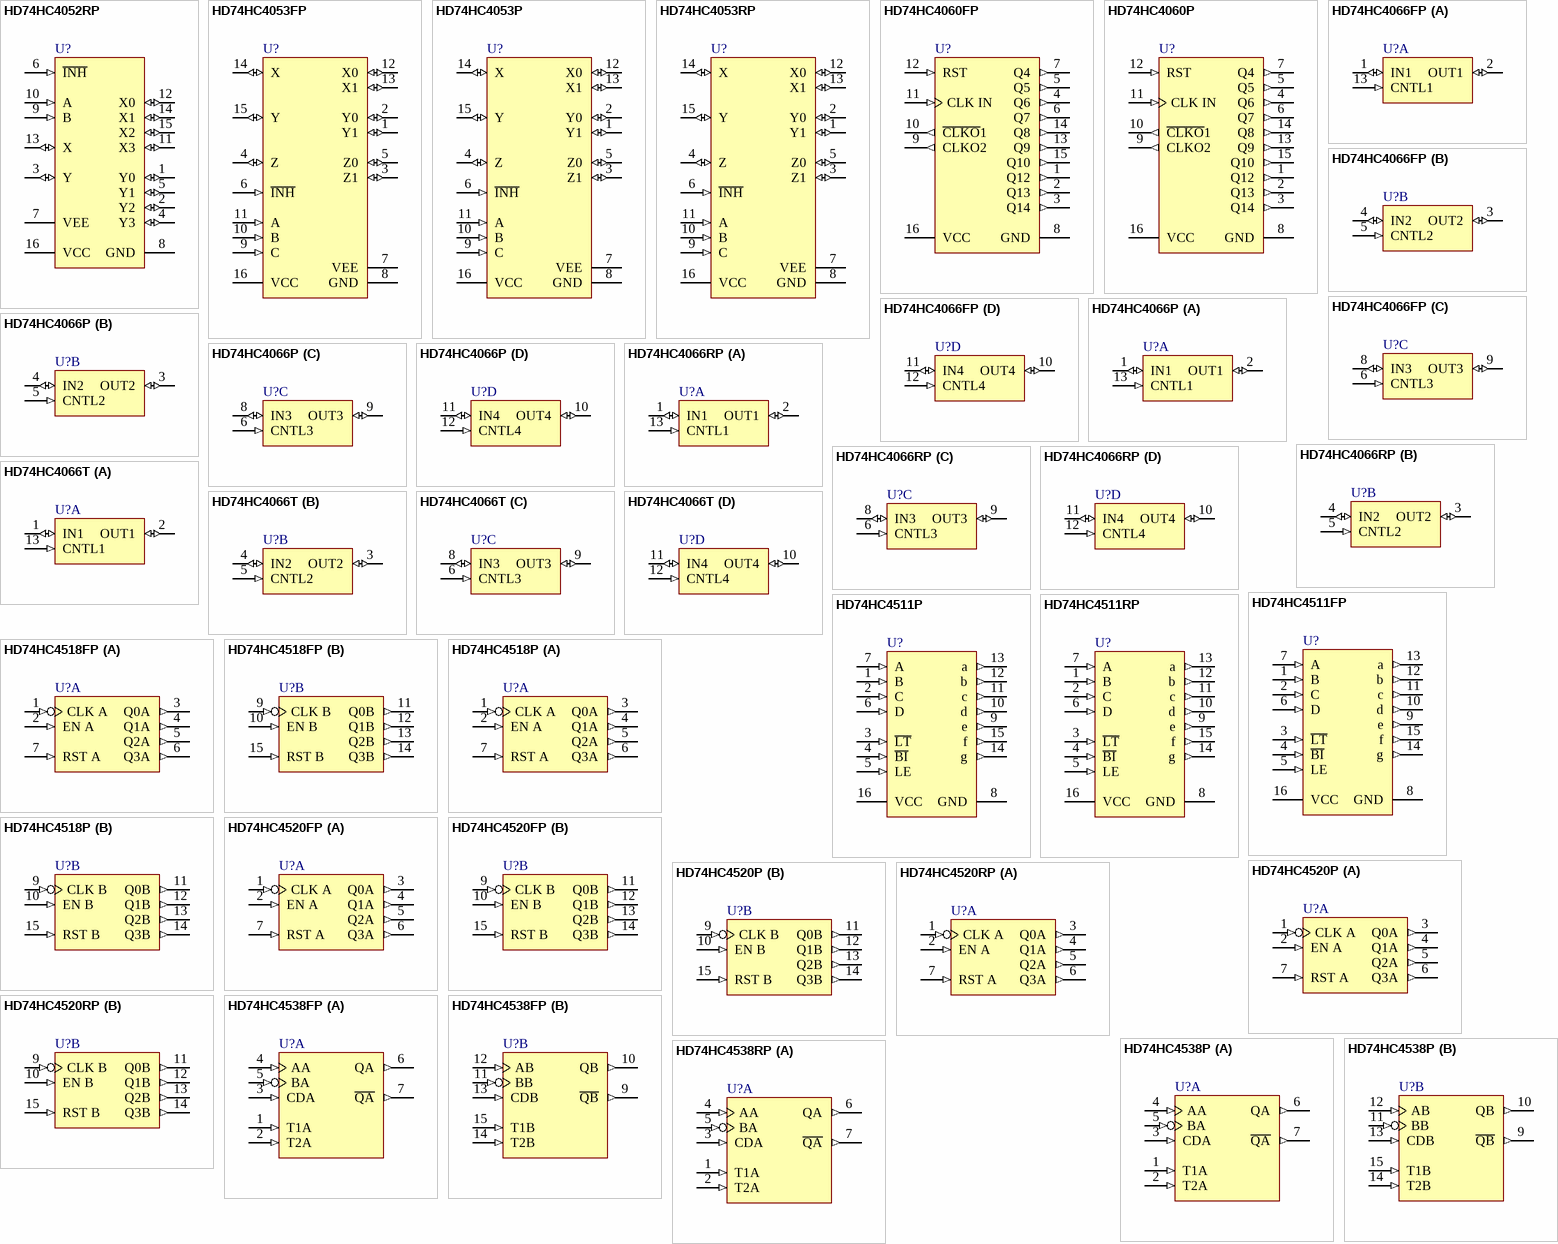
[diagram p24: symbols HD74HC4052RP to HD74HC4538RP]

## HD74HC4052RP
designator U?
Dual 4-Channel Analog Multiplexers / Demultiplexers; Published: 10-Feb-2010; DatasheetVersion: Rev.2.00, Mar-2006; PackageVersion: Sep-2005; PackageReference: PRSP0016DG-A; Publisher: Altium Limited; PackageDescription: 16-Pin Plastic Small Outline Integrated Circuit, 9.9 x 3.95 mm Body, 1.27 mm Pitch; Code_JEITA: P-SOP16-3.95x9.9-1.27; Code_IPC: SOIC127P600-16; ComponentLink1Description: Manufacturer Link; ComponentLink1URL: http://sg.renesas.com/fmwk.jsp?cnt=hd74hc_root.jsp&fp=/products/standard_ic/general_purpose_logic/5v_standard_logic/hd74hc/; ComponentLink2Description: Datasheet; ComponentLink2URL: http://documentation.renesas.com/eng/products/logic/rej03d0649_hd74hc4052_4053ds.pdf; ComponentLink3Description: Packaging Specification; ComponentLink3URL: http://sg.renesas.com/media/products/common_info/package/pdf/ic/code/prsp0016dg_a.pdf
footprint PRSP0016DG-A_N (SOIC, 16-Leads, Body 9.9x3.95mm, Pitch 1.27mm, IPC Medium Density)
footprint PRSP0016DG-A_L (SOIC, 16-Leads, Body 9.9x3.95mm, Pitch 1.27mm, IPC High Density)
footprint PRSP0016DG-A_M (SOIC, 16-Leads, Body 9.9x3.95mm, Pitch 1.27mm, IPC Low Density)
pins: 1 Y0 (io), 2 Y2 (io), 3 Y (io), 4 Y3 (io), 5 Y1 (io), 6 ~{INH} (in), 7 VEE (power), 8 GND (power), 9 B (in), 10 A (in), 11 X3 (io), 12 X0 (io), 13 X (io), 14 X1 (io), 15 X2 (io), 16 VCC (power)

## HD74HC4053FP
designator U?
Triple 2-Channel Analog Multiplexers / Demultiplexers; Published: 10-Feb-2010; DatasheetVersion: Rev.2.00, Mar-2006; PackageVersion: Sep-2005; PackageReference: PRSP0016DH-B; Publisher: Altium Limited; PackageDescription: 16-Pin Plastic Small Outline Package 1.27 mm Pitch; Code_JEITA: P-SOP16-5.5x10.06-1.27; ComponentLink1Description: Manufacturer Link; ComponentLink1URL: http://sg.renesas.com/fmwk.jsp?cnt=hd74hc_root.jsp&fp=/products/standard_ic/general_purpose_logic/5v_standard_logic/hd74hc/; ComponentLink2Description: Datasheet; ComponentLink2URL: http://documentation.renesas.com/eng/products/logic/rej03d0649_hd74hc4052_4053ds.pdf; ComponentLink3Description: Packaging Specification; ComponentLink3URL: http://sg.renesas.com/media/products/common_info/package/pdf/ic/code/prsp0016dh_b.pdf
footprint PRSP0016DH-B_N (SOP, 16-Leads, Body 10.06x5.5mm, Pitch 1.27mm, IPC Medium Density)
footprint PRSP0016DH-B_L (SOP, 16-Leads, Body 10.06x5.5mm, Pitch 1.27mm, IPC High Density)
footprint PRSP0016DH-B_M (SOP, 16-Leads, Body 10.06x5.5mm, Pitch 1.27mm, IPC Low Density)
pins: 1 Y1 (io), 2 Y0 (io), 3 Z1 (io), 4 Z (io), 5 Z0 (io), 6 ~{INH} (in), 7 VEE (power), 8 GND (power), 9 C (in), 10 B (in), 11 A (in), 12 X0 (io), 13 X1 (io), 14 X (io), 15 Y (io), 16 VCC (power)

## HD74HC4053P
designator U?
Triple 2-Channel Analog Multiplexers / Demultiplexers; Published: 10-Feb-2010; DatasheetVersion: Rev.2.00, Mar-2006; PackageVersion: Sep-2005; PackageReference: PRDP0016AE-B; Publisher: Altium Limited; PackageDescription: DIP, Plastic, 16-Pin, Row Spacing 7.62 mm, Pitch 2.54 mm; Code_JEITA: P-DIP16-6.3x19.2-2.54; ComponentLink1Description: Manufacturer Link; ComponentLink1URL: http://sg.renesas.com/fmwk.jsp?cnt=hd74hc_root.jsp&fp=/products/standard_ic/general_purpose_logic/5v_standard_logic/hd74hc/; ComponentLink2Description: Datasheet; ComponentLink2URL: http://documentation.renesas.com/eng/products/logic/rej03d0649_hd74hc4052_4053ds.pdf; ComponentLink3Description: Packaging Specification; ComponentLink3URL: http://sg.renesas.com/media/products/common_info/package/pdf/ic/code/prdp0016ae_b.pdf
footprint PRDP0016AE-B (DIP, 16-Leads, Row Spacing 7.62mm, Pitch 2.54mm, Body 19.2x6.3mm)
pins: 1 Y1 (io), 2 Y0 (io), 3 Z1 (io), 4 Z (io), 5 Z0 (io), 6 ~{INH} (in), 7 VEE (power), 8 GND (power), 9 C (in), 10 B (in), 11 A (in), 12 X0 (io), 13 X1 (io), 14 X (io), 15 Y (io), 16 VCC (power)

## HD74HC4053RP
designator U?
Triple 2-Channel Analog Multiplexers / Demultiplexers; Published: 10-Feb-2010; DatasheetVersion: Rev.2.00, Mar-2006; PackageVersion: Sep-2005; PackageReference: PRSP0016DG-A; Publisher: Altium Limited; PackageDescription: 16-Pin Plastic Small Outline Integrated Circuit, 9.9 x 3.95 mm Body, 1.27 mm Pitch; Code_JEITA: P-SOP16-3.95x9.9-1.27; Code_IPC: SOIC127P600-16; ComponentLink1Description: Manufacturer Link; ComponentLink1URL: http://sg.renesas.com/fmwk.jsp?cnt=hd74hc_root.jsp&fp=/products/standard_ic/general_purpose_logic/5v_standard_logic/hd74hc/; ComponentLink2Description: Datasheet; ComponentLink2URL: http://documentation.renesas.com/eng/products/logic/rej03d0649_hd74hc4052_4053ds.pdf; ComponentLink3Description: Packaging Specification; ComponentLink3URL: http://sg.renesas.com/media/products/common_info/package/pdf/ic/code/prsp0016dg_a.pdf
footprint PRSP0016DG-A_N (SOIC, 16-Leads, Body 9.9x3.95mm, Pitch 1.27mm, IPC Medium Density)
footprint PRSP0016DG-A_L (SOIC, 16-Leads, Body 9.9x3.95mm, Pitch 1.27mm, IPC High Density)
footprint PRSP0016DG-A_M (SOIC, 16-Leads, Body 9.9x3.95mm, Pitch 1.27mm, IPC Low Density)
pins: 1 Y1 (io), 2 Y0 (io), 3 Z1 (io), 4 Z (io), 5 Z0 (io), 6 ~{INH} (in), 7 VEE (power), 8 GND (power), 9 C (in), 10 B (in), 11 A (in), 12 X0 (io), 13 X1 (io), 14 X (io), 15 Y (io), 16 VCC (power)

## HD74HC4060FP
designator U?
14-stage Binary Counter; Published: 10-Feb-2010; DatasheetVersion: Rev.2.00, Mar-2006; PackageVersion: Sep-2005; PackageReference: PRSP0016DH-B; Publisher: Altium Limited; PackageDescription: 16-Pin Plastic Small Outline Package 1.27 mm Pitch; Code_JEITA: P-SOP16-5.5x10.06-1.27; ComponentLink1Description: Manufacturer Link; ComponentLink1URL: http://sg.renesas.com/fmwk.jsp?cnt=hd74hc_root.jsp&fp=/products/standard_ic/general_purpose_logic/5v_standard_logic/hd74hc/; ComponentLink2Description: Datasheet; ComponentLink2URL: http://documentation.renesas.com/eng/products/logic/rej03d0650_hd74hc4060ds.pdf; ComponentLink3Description: Packaging Specification; ComponentLink3URL: http://sg.renesas.com/media/products/common_info/package/pdf/ic/code/prsp0016dh_b.pdf
footprint PRSP0016DH-B_N (SOP, 16-Leads, Body 10.06x5.5mm, Pitch 1.27mm, IPC Medium Density)
footprint PRSP0016DH-B_L (SOP, 16-Leads, Body 10.06x5.5mm, Pitch 1.27mm, IPC High Density)
footprint PRSP0016DH-B_M (SOP, 16-Leads, Body 10.06x5.5mm, Pitch 1.27mm, IPC Low Density)
pins: 1 Q12 (out), 2 Q13 (out), 3 Q14 (out), 4 Q6 (out), 5 Q5 (out), 6 Q7 (out), 7 Q4 (out), 8 GND (power), 9 CLKO2 (out), 10 ~{CLKO}1 (out), 11 CLK IN (in), 12 RST (in), 13 Q9 (out), 14 Q8 (out), 15 Q10 (out), 16 VCC (power)

## HD74HC4060P
designator U?
14-stage Binary Counter; Published: 10-Feb-2010; DatasheetVersion: Rev.2.00, Mar-2006; PackageVersion: Sep-2005; PackageReference: PRDP0016AE-B; Publisher: Altium Limited; PackageDescription: DIP, Plastic, 16-Pin, Row Spacing 7.62 mm, Pitch 2.54 mm; Code_JEITA: P-DIP16-6.3x19.2-2.54; ComponentLink1Description: Manufacturer Link; ComponentLink1URL: http://sg.renesas.com/fmwk.jsp?cnt=hd74hc_root.jsp&fp=/products/standard_ic/general_purpose_logic/5v_standard_logic/hd74hc/; ComponentLink2Description: Datasheet; ComponentLink2URL: http://documentation.renesas.com/eng/products/logic/rej03d0650_hd74hc4060ds.pdf; ComponentLink3Description: Packaging Specification; ComponentLink3URL: http://sg.renesas.com/media/products/common_info/package/pdf/ic/code/prdp0016ae_b.pdf
footprint PRDP0016AE-B (DIP, 16-Leads, Row Spacing 7.62mm, Pitch 2.54mm, Body 19.2x6.3mm)
pins: 1 Q12 (out), 2 Q13 (out), 3 Q14 (out), 4 Q6 (out), 5 Q5 (out), 6 Q7 (out), 7 Q4 (out), 8 GND (power), 9 CLKO2 (out), 10 ~{CLKO}1 (out), 11 CLK IN (in), 12 RST (in), 13 Q9 (out), 14 Q8 (out), 15 Q10 (out), 16 VCC (power)

## HD74HC4066FP
designator U?
Quad Analog Switches / Quad Multiplexers; Published: 10-Feb-2010; DatasheetVersion: Rev.2.00, Mar-2006; PackageVersion: Sep-2005; PackageReference: PRSP0014DF-B; Publisher: Altium Limited; PackageDescription: 14-Pin Plastic Small Outline Package, 10.06 x 5.5 mm Body, 1.27 mm Pitch; Code_JEITA: P-SOP14-5.5x10.06-1.27; ComponentLink1Description: Manufacturer Link; ComponentLink1URL: http://sg.renesas.com/fmwk.jsp?cnt=hd74hc_root.jsp&fp=/products/standard_ic/general_purpose_logic/5v_standard_logic/hd74hc/; ComponentLink2Description: Datasheet; ComponentLink2URL: http://documentation.renesas.com/eng/products/logic/rej03d0651_hd74hc4066ds.pdf; ComponentLink3Description: Packaging Specification; ComponentLink3URL: http://sg.renesas.com/media/products/common_info/package/pdf/ic/code/prsp0014df_b.pdf
footprint PRSP0014DF-B_N (SOP, 14-Leads, Body 10.06x5.5mm, Pitch 1.27mm, IPC Medium Density)
footprint PRSP0014DF-B_L (SOP, 14-Leads, Body 10.06x5.5mm, Pitch 1.27mm, IPC High Density)
footprint PRSP0014DF-B_M (SOP, 14-Leads, Body 10.06x5.5mm, Pitch 1.27mm, IPC Low Density)
pins on every part: 7 GND (power) hidden, 14 VCC (power) hidden
part A pins: 1 IN1 (io), 2 OUT1 (io), 13 CNTL1 (in)
part B pins: 3 OUT2 (io), 4 IN2 (io), 5 CNTL2 (in)
part C pins: 6 CNTL3 (in), 8 IN3 (io), 9 OUT3 (io)
part D pins: 10 OUT4 (io), 11 IN4 (io), 12 CNTL4 (in)

## HD74HC4066P
designator U?
Quad Analog Switches / Quad Multiplexers; Published: 10-Feb-2010; DatasheetVersion: Rev.2.00, Mar-2006; PackageVersion: Sep-2005; PackageReference: PRDP0014AB-B; Publisher: Altium Limited; PackageDescription: 14-Pin Plastic DIP, 19.2 x 6.3 mm Body, 7.62 mm Row Spacing, Pitch 2.54 mm; Code_JEITA: P-DIP14-6.3x19.2-2.54; ComponentLink1Description: Manufacturer Link; ComponentLink1URL: http://sg.renesas.com/fmwk.jsp?cnt=hd74hc_root.jsp&fp=/products/standard_ic/general_purpose_logic/5v_standard_logic/hd74hc/; ComponentLink2Description: Datasheet; ComponentLink2URL: http://documentation.renesas.com/eng/products/logic/rej03d0651_hd74hc4066ds.pdf; ComponentLink3Description: Packaging Specification; ComponentLink3URL: http://sg.renesas.com/media/products/common_info/package/pdf/ic/code/prdp0014ab_b.pdf
footprint PRDP0014AB-B (DIP, 14-Leads, Row Spacing 7.62mm, Pitch 2.54mm, Body 19.2x6.3mm)
pins on every part: 7 GND (power) hidden, 14 VCC (power) hidden
part A pins: 1 IN1 (io), 2 OUT1 (io), 13 CNTL1 (in)
part B pins: 3 OUT2 (io), 4 IN2 (io), 5 CNTL2 (in)
part C pins: 6 CNTL3 (in), 8 IN3 (io), 9 OUT3 (io)
part D pins: 10 OUT4 (io), 11 IN4 (io), 12 CNTL4 (in)

## HD74HC4066RP
designator U?
Quad Analog Switches / Quad Multiplexers; Published: 10-Feb-2010; DatasheetVersion: Rev.2.00, Mar-2006; PackageVersion: Sep-2005; PackageReference: PRSP0014DE-A; Publisher: Altium Limited; PackageDescription: 14-Pin Plastic Small Outline Integrated Circuit 8.65 x 3.95 mm Body, 1.27 mm Pitch; Code_JEITA: P-SOP14-3.95x8.65-1.27; ComponentLink1Description: Manufacturer Link; ComponentLink1URL: http://sg.renesas.com/fmwk.jsp?cnt=hd74hc_root.jsp&fp=/products/standard_ic/general_purpose_logic/5v_standard_logic/hd74hc/; ComponentLink2Description: Datasheet; ComponentLink2URL: http://documentation.renesas.com/eng/products/logic/rej03d0651_hd74hc4066ds.pdf; ComponentLink3Description: Packaging Specification; ComponentLink3URL: http://sg.renesas.com/media/products/common_info/package/pdf/ic/code/prsp0014de_a.pdf
footprint PRSP0014DE-A_N (SOIC, 14-Leads, Body 8.65x3.95mm, Pitch 1.27mm, IPC Medium Density)
footprint PRSP0014DE-A_L (SOIC, 14-Leads, Body 8.65x3.95mm, Pitch 1.27mm, IPC High Density)
footprint PRSP0014DE-A_M (SOIC, 14-Leads, Body 8.65x3.95mm, Pitch 1.27mm, IPC Low Density)
pins on every part: 7 GND (power) hidden, 14 VCC (power) hidden
part A pins: 1 IN1 (io), 2 OUT1 (io), 13 CNTL1 (in)
part B pins: 3 OUT2 (io), 4 IN2 (io), 5 CNTL2 (in)
part C pins: 6 CNTL3 (in), 8 IN3 (io), 9 OUT3 (io)
part D pins: 10 OUT4 (io), 11 IN4 (io), 12 CNTL4 (in)

## HD74HC4066T
designator U?
Quad Analog Switches / Quad Multiplexers; Published: 10-Feb-2010; DatasheetVersion: Rev.2.00, Mar-2006; PackageVersion: Sep-2005; PackageReference: PTSP0014JA-B; Publisher: Altium Limited; PackageDescription: 14-Pin Plastic Thin Small Outline Package 0.65 mm Pitch; Code_JEITA: P-TSSOP14-4.4x5-0.65; ComponentLink1Description: Manufacturer Link; ComponentLink1URL: http://sg.renesas.com/fmwk.jsp?cnt=hd74hc_root.jsp&fp=/products/standard_ic/general_purpose_logic/5v_standard_logic/hd74hc/; ComponentLink2Description: Datasheet; ComponentLink2URL: http://documentation.renesas.com/eng/products/logic/rej03d0651_hd74hc4066ds.pdf; ComponentLink3Description: Packaging Specification; ComponentLink3URL: http://sg.renesas.com/media/products/common_info/package/pdf/ic/code/ptsp0014ja_b.pdf
footprint PTSP0014JA-B_N (TSOP, 14-Leads, Body 5x4.4mm, Pitch 0.65mm, IPC Medium Density)
footprint PTSP0014JA-B_L (TSOP, 14-Leads, Body 5x4.4mm, Pitch 0.65mm, IPC High Density)
footprint PTSP0014JA-B_M (TSOP, 14-Leads, Body 5x4.4mm, Pitch 0.65mm, IPC Low Density)
pins on every part: 7 GND (power) hidden, 14 VCC (power) hidden
part A pins: 1 IN1 (io), 2 OUT1 (io), 13 CNTL1 (in)
part B pins: 3 OUT2 (io), 4 IN2 (io), 5 CNTL2 (in)
part C pins: 6 CNTL3 (in), 8 IN3 (io), 9 OUT3 (io)
part D pins: 10 OUT4 (io), 11 IN4 (io), 12 CNTL4 (in)

## HD74HC4511FP
designator U?
BCD-to-Seven Segment Latch / Decoder / Driver; Published: 10-Feb-2010; DatasheetVersion: Rev.3.00, Nov-2008; PackageVersion: Sep-2005; PackageReference: PRSP0016DH-B; Publisher: Altium Limited; PackageDescription: 16-Pin Plastic Small Outline Package 1.27 mm Pitch; Code_JEITA: P-SOP16-5.5x10.06-1.27; ComponentLink1Description: Manufacturer Link; ComponentLink1URL: http://sg.renesas.com/fmwk.jsp?cnt=hd74hc_root.jsp&fp=/products/standard_ic/general_purpose_logic/5v_standard_logic/hd74hc/; ComponentLink2Description: Datasheet; ComponentLink2URL: http://documentation.renesas.com/eng/products/logic/rej03d0652_hd74hc4511ds.pdf; ComponentLink3Description: Packaging Specification; ComponentLink3URL: http://sg.renesas.com/media/products/common_info/package/pdf/ic/code/prsp0016dh_b.pdf
footprint PRSP0016DH-B_N (SOP, 16-Leads, Body 10.06x5.5mm, Pitch 1.27mm, IPC Medium Density)
footprint PRSP0016DH-B_L (SOP, 16-Leads, Body 10.06x5.5mm, Pitch 1.27mm, IPC High Density)
footprint PRSP0016DH-B_M (SOP, 16-Leads, Body 10.06x5.5mm, Pitch 1.27mm, IPC Low Density)
pins: 1 B (in), 2 C (in), 3 ~{LT} (in), 4 ~{BI} (in), 5 LE (in), 6 D (in), 7 A (in), 8 GND (power), 9 e (out), 10 d (out), 11 c (out), 12 b (out), 13 a (out), 14 g (out), 15 f (out), 16 VCC (power)

## HD74HC4511P
designator U?
BCD-to-Seven Segment Latch / Decoder / Driver; Published: 10-Feb-2010; DatasheetVersion: Rev.3.00, Nov-2008; PackageVersion: Sep-2005; PackageReference: PRDP0016AE-B; Publisher: Altium Limited; PackageDescription: DIP, Plastic, 16-Pin, Row Spacing 7.62 mm, Pitch 2.54 mm; Code_JEITA: P-DIP16-6.3x19.2-2.54; ComponentLink1Description: Manufacturer Link; ComponentLink1URL: http://sg.renesas.com/fmwk.jsp?cnt=hd74hc_root.jsp&fp=/products/standard_ic/general_purpose_logic/5v_standard_logic/hd74hc/; ComponentLink2Description: Datasheet; ComponentLink2URL: http://documentation.renesas.com/eng/products/logic/rej03d0652_hd74hc4511ds.pdf; ComponentLink3Description: Packaging Specification; ComponentLink3URL: http://sg.renesas.com/media/products/common_info/package/pdf/ic/code/prdp0016ae_b.pdf
footprint PRDP0016AE-B (DIP, 16-Leads, Row Spacing 7.62mm, Pitch 2.54mm, Body 19.2x6.3mm)
pins: 1 B (in), 2 C (in), 3 ~{LT} (in), 4 ~{BI} (in), 5 LE (in), 6 D (in), 7 A (in), 8 GND (power), 9 e (out), 10 d (out), 11 c (out), 12 b (out), 13 a (out), 14 g (out), 15 f (out), 16 VCC (power)

## HD74HC4511RP
designator U?
BCD-to-Seven Segment Latch / Decoder / Driver; Published: 10-Feb-2010; DatasheetVersion: Rev.3.00, Nov-2008; PackageVersion: Sep-2005; PackageReference: PRSP0016DG-A; Publisher: Altium Limited; PackageDescription: 16-Pin Plastic Small Outline Integrated Circuit, 9.9 x 3.95 mm Body, 1.27 mm Pitch; Code_JEITA: P-SOP16-3.95x9.9-1.27; Code_IPC: SOIC127P600-16; ComponentLink1Description: Manufacturer Link; ComponentLink1URL: http://sg.renesas.com/fmwk.jsp?cnt=hd74hc_root.jsp&fp=/products/standard_ic/general_purpose_logic/5v_standard_logic/hd74hc/; ComponentLink2Description: Datasheet; ComponentLink2URL: http://documentation.renesas.com/eng/products/logic/rej03d0652_hd74hc4511ds.pdf; ComponentLink3Description: Packaging Specification; ComponentLink3URL: http://sg.renesas.com/media/products/common_info/package/pdf/ic/code/prsp0016dg_a.pdf
footprint PRSP0016DG-A_N (SOIC, 16-Leads, Body 9.9x3.95mm, Pitch 1.27mm, IPC Medium Density)
footprint PRSP0016DG-A_L (SOIC, 16-Leads, Body 9.9x3.95mm, Pitch 1.27mm, IPC High Density)
footprint PRSP0016DG-A_M (SOIC, 16-Leads, Body 9.9x3.95mm, Pitch 1.27mm, IPC Low Density)
pins: 1 B (in), 2 C (in), 3 ~{LT} (in), 4 ~{BI} (in), 5 LE (in), 6 D (in), 7 A (in), 8 GND (power), 9 e (out), 10 d (out), 11 c (out), 12 b (out), 13 a (out), 14 g (out), 15 f (out), 16 VCC (power)

## HD74HC4518FP
designator U?
Dual BCD Up Counters; Published: 10-Feb-2010; DatasheetVersion: Rev.2.00, Mar-2006; PackageVersion: Sep-2005; PackageReference: PRSP0016DH-B; Publisher: Altium Limited; PackageDescription: 16-Pin Plastic Small Outline Package 1.27 mm Pitch; Code_JEITA: P-SOP16-5.5x10.06-1.27; ComponentLink1Description: Manufacturer Link; ComponentLink1URL: http://sg.renesas.com/fmwk.jsp?cnt=hd74hc_root.jsp&fp=/products/standard_ic/general_purpose_logic/5v_standard_logic/hd74hc/; ComponentLink2Description: Datasheet; ComponentLink2URL: http://documentation.renesas.com/eng/products/logic/rej03d0653_hd74hc4518_4520ds.pdf; ComponentLink3Description: Packaging Specification; ComponentLink3URL: http://sg.renesas.com/media/products/common_info/package/pdf/ic/code/prsp0016dh_b.pdf
footprint PRSP0016DH-B_N (SOP, 16-Leads, Body 10.06x5.5mm, Pitch 1.27mm, IPC Medium Density)
footprint PRSP0016DH-B_L (SOP, 16-Leads, Body 10.06x5.5mm, Pitch 1.27mm, IPC High Density)
footprint PRSP0016DH-B_M (SOP, 16-Leads, Body 10.06x5.5mm, Pitch 1.27mm, IPC Low Density)
pins on every part: 8 GND (power) hidden to GND, 16 VCC (power) hidden to VDD
part A pins: 1 CLK A (in), 2 EN A (in), 3 Q0A (out), 4 Q1A (out), 5 Q2A (out), 6 Q3A (out), 7 RST A (in)
part B pins: 9 CLK B (in), 10 EN B (in), 11 Q0B (out), 12 Q1B (out), 13 Q2B (out), 14 Q3B (out), 15 RST B (in)